# EAGLE library part CY8CKIT-059 (library CY8C5888LTI-LP097)
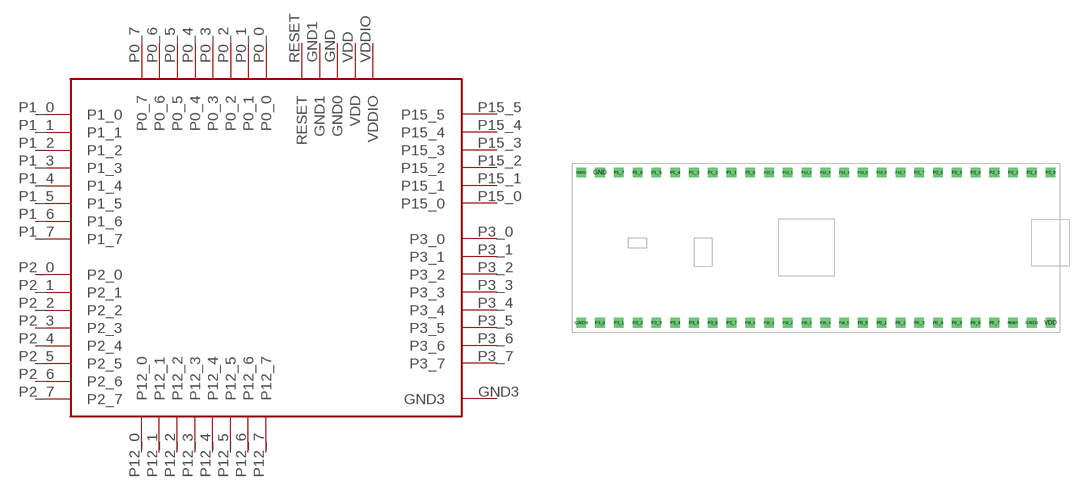
[diagram p1: symbol with the pads of PSOC_STICK; footprint PSOC_STICK]

Designator prefix -

## CY8CKIT-059  [PSOC_STICK]
GND  GND0  pwr
GND1  GND1  pwr
GND3  GND3
P0_0  P0_0
P0_1  P0_1
P0_2  P0_2
P0_3  P0_3
P0_4  P0_4
P0_5  P0_5
P0_6  P0_6
P0_7  P0_7
P1_0  P1_0
P1_1  P1_1
P1_2  P1_2
P1_3  P1_3
P1_4  P1_4
P1_5  P1_5
P1_6  P1_6
P1_7  P1_7
P2_0  P2_0
P2_1  P2_1
P2_2  P2_2
P2_3  P2_3
P2_4  P2_4
P2_5  P2_5
P2_6  P2_6
P2_7  P2_7
P3_0  P3_0
P3_1  P3_1
P3_2  P3_2
P3_3  P3_3
P3_4  P3_4
P3_5  P3_5
P3_6  P3_6
P3_7  P3_7
P12_0  P12_0
P12_1  P12_1
P12_2  P12_2
P12_3  P12_3
P12_4  P12_4
P12_5  P12_5
P12_6  P12_6
P12_7  P12_7
P15_0  P15_0
P15_1  P15_1
P15_2  P15_2
P15_3  P15_3
P15_4  P15_4
P15_5  P15_5
RESET  RESET  in
VDD  VDD  pwr
VDDIO  VDDIO  pwr

## Footprint PSOC_STICK (pad centres in mm)
drill 0.8 square: GND 2.54,20.32; GND1 60.96,0; GND3 0,0; P0_0 38.1,0; P0_1 40.64,0; P0_2 43.18,0; P0_3 45.72,0; P0_4 48.26,0; P0_5 50.8,0; P0_6 53.34,0; P0_7 55.88,0; P1_0 22.86,20.32; P1_1 20.32,20.32; P1_2 17.78,20.32; P1_3 15.24,20.32; P1_4 12.7,20.32; P1_5 10.16,20.32; P1_6 7.62,20.32; P1_7 5.08,20.32; P2_0 63.5,20.32; P2_1 60.96,20.32; P2_2 58.42,20.32; P2_3 55.88,20.32; P2_4 53.34,20.32; P2_5 50.8,20.32; P2_6 48.26,20.32; P2_7 45.72,20.32; P3_0 2.54,0; P3_1 5.08,0; P3_2 7.62,0; P3_3 10.16,0; P3_4 12.7,0; P3_5 15.24,0; P3_6 17.78,0; P3_7 20.32,0; P12_0 25.4,20.32; P12_1 27.94,20.32; P12_2 30.48,20.32; P12_3 33.02,20.32; P12_4 35.56,20.32; P12_5 38.1,20.32; P12_6 40.64,20.32; P12_7 43.18,20.32; P15_0 22.86,0; P15_1 25.4,0; P15_2 27.94,0; P15_3 30.48,0; P15_4 33.02,0; P15_5 35.56,0; RESET 58.42,0; VDD 63.5,0; VDDIO 0,20.32